# Altium schematic symbol library GRM31MR71C225KA35L.SchLib: 1 symbol
Pins are listed as number, name and electrical type; pins without a type are passive.

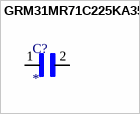
[diagram p0: symbol GRM31MR71C225KA35L]

## GRM31MR71C225KA35L
designator C?
Cap Ceramic 2.2uF 16V X7R 10% SMD 1206 125В°C Embossed T/R; MP: GRM31MR71C225KA35L; MF: {'manufacturer': u'Murata Electronics'}; Package: None; Availability: Unavailable; Price: None; Value: *
footprint CAPC3216X125N
pins: 1, 2